# Altium footprint library EC464_Drawings.PcbLib: 9 footprints
Each footprint in its own frame and in the unit in brackets; x right, y up, seen from the top. Pads: shape width x height; smd on the part's side, far side on the other; paste and mask are expansions set on the pad; w line width, h text height; cw(c..) or ccw(c..) is an arc to the next point about the centre after c.
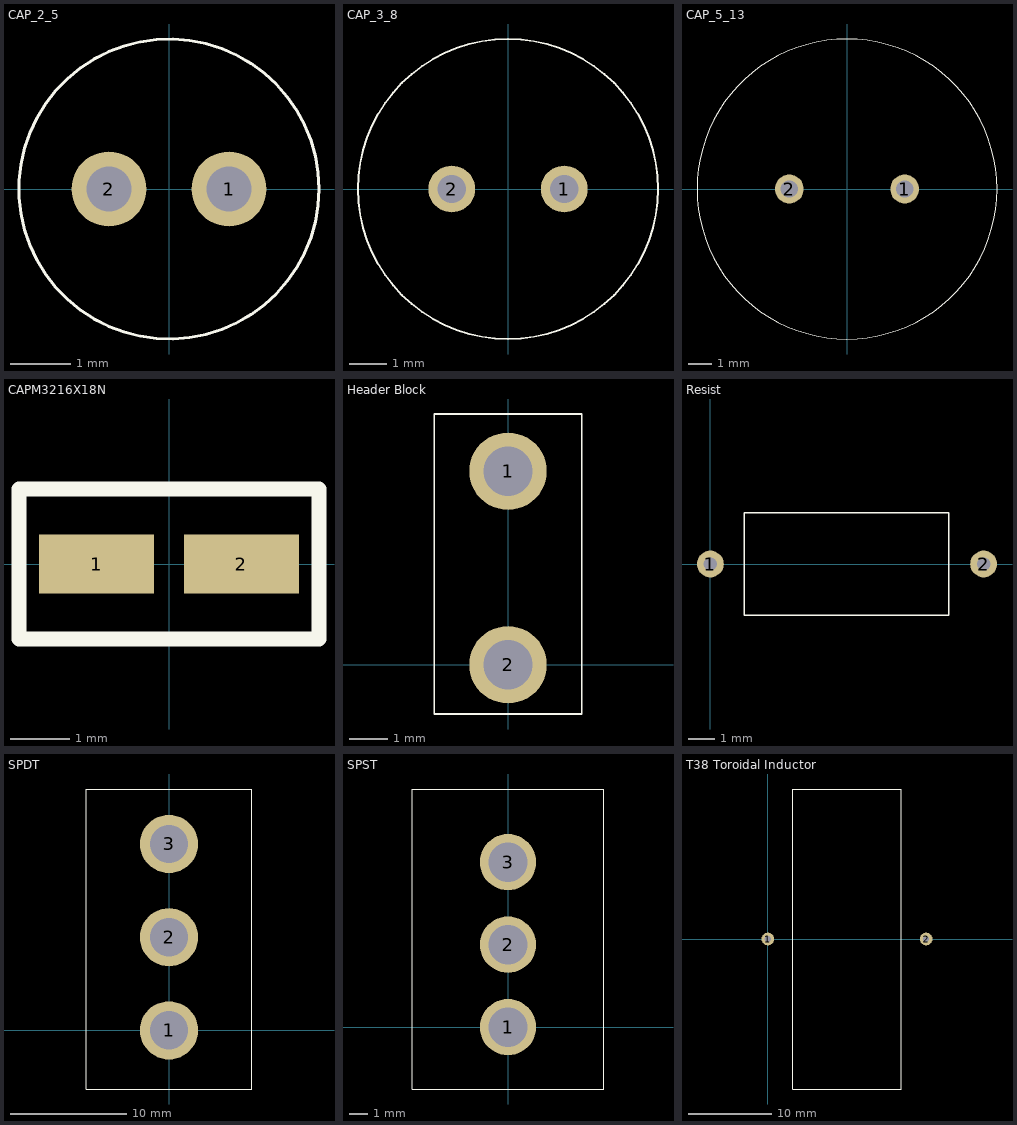
[diagram p0: the footprints below, top view; thin cyan lines are the x and y axes]

## CAP_2_5 [mm] "2mm pitch, 5mm dia."
height 12
pads (2):
  round 1.25 hole 0.75: 1(1,0) 2(-1,0)
Top Overlay:
  circle w0.05: c0,0 r2.5

## CAP_3_8 [mm] "3mm pitch, 8mm dia."
height 12
pads (2):
  round 1.25 hole 0.75: 1(1.5,0) 2(-1.5,0)
Top Overlay:
  circle w0.05: c0,0 r4

## CAP_5_13 [mm] "5mm pitch, 13mm dia."
height 12
pads (2):
  round 1.25 hole 0.75: 1(2.5,0) 2(-2.5,0)
Top Overlay:
  circle w0.05: c0,0 r6.5

## CAPM3216X18N [mm] "Molded Capacitor, 2-Leads, Body 3.2x1.6mm, IPC Medium Density"
height 1.8
pads (2):
  rect 1.95x1 smd: 1(-1.225,0) 2(1.225,0)
Top Overlay:
  lines w0.254: -2.54,-1.27 -2.54,1.27 2.54,1.27 2.54,-1.27 -2.54,-1.27

## Header Block [mm]
pads (2):
  round 2 hole 1.27: 1(0,5) 2(0,0)
Top Overlay:
  lines w0.05: -1.905,-1.27 1.905,-1.27 1.905,6.477 -1.905,6.477 -1.905,-1.27

## Resist [mm]
pads (2):
  round 1 hole 0.5: 1(0,0) 2(10.2,0)
Top Overlay:
  lines w0.05: 1.27,-1.905 1.27,0 1.27,1.905 8.89,1.905 8.89,-1.905 1.27,-1.905

## SPDT [mm]
height 18
pads (3):
  round 5 hole 3.3: 1(0,0) 2(0,8) 3(0,16)
Top Overlay:
  lines w0.05: -7.1,-5.03 -7.1,20.72 7.1,20.72 7.1,-5.03 -7.1,-5.03

## SPST [mm]
height 18
pads (3):
  round 3 hole 2.1: 1(0,0) 2(0,4.4) 3(0,8.8)
Top Overlay:
  lines w0.05: -5.1,-3.3 5.1,-3.3 5.1,12.7 -5.1,12.7 -5.1,-3.3

## T38 Toroidal Inductor [mil]
height 551.18
pads (2):
  round 60 hole 30: 1(0,0)
  round 60 hole 27.56: 2(748.03,0)
Top Overlay:
  lines w1.97: 118.11,-708.66 629.92,-708.66 629.92,708.66 118.11,708.66 118.11,-708.66